# EAGLE library part MOD_DRV8835 (library akita)
Akizuki's DR8835 Breakout, dual DC motor driver
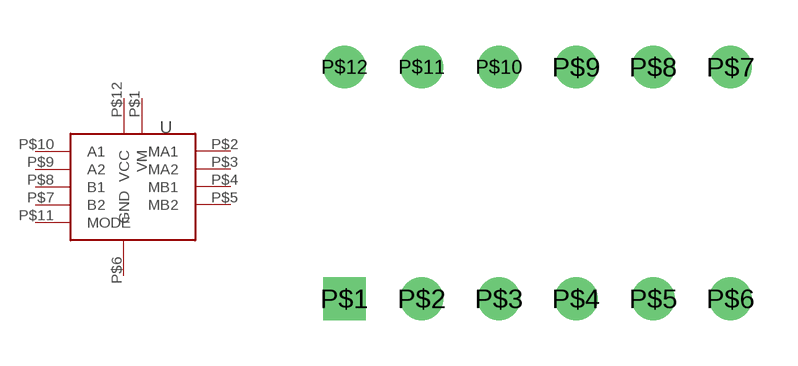
[diagram p203: symbol with the pads of DIP12; footprint DIP12]

Designator prefix U

## MOD_DRV8835  [DIP12]
P$1  VM
P$2  MA1
P$3  MA2
P$4  MB1
P$5  MB2
P$6  GND
P$7  B2
P$8  B1
P$9  A2
P$10  A1
P$11  MODE
P$12  VCC

## Footprint DIP12 (pad centres in mm)
DIP12p, 300mil
drill 0.9 square: P$1 -6.35,-3.81
drill 0.9: P$2 -3.81,-3.81; P$3 -1.27,-3.81; P$4 1.27,-3.81; P$5 3.81,-3.81; P$6 6.35,-3.81; P$7 6.35,3.81; P$8 3.81,3.81; P$9 1.27,3.81; P$10 -1.27,3.81; P$11 -3.81,3.81; P$12 -6.35,3.81